# EAGLE library part ESP07-16PIN (library esp8266modules)
ESP8266 Wifi module 07 - 16 pins
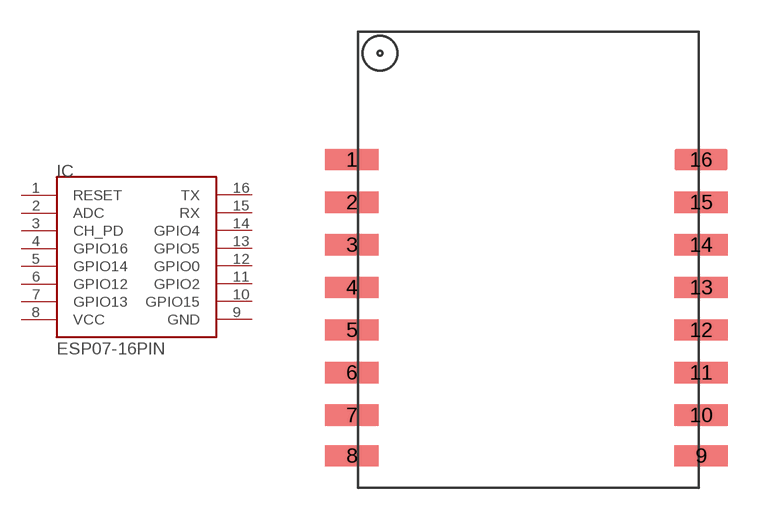
[diagram p11: symbol with the pads of ESP07-16PIN; footprint ESP07-16PIN]

Designator prefix IC

## ESP07-16PIN (DIMENSIONS: 22.0 x 16.0 mm; PINS: 16; PITCH: 0.078" / 2 mm)  [ESP07-16PIN]
1  RESET
2  ADC
3  CH_PD
4  GPIO16
5  GPIO14
6  GPIO12
7  GPIO13
8  VCC
9  GND
10  GPIO15
11  GPIO2
12  GPIO0
13  GPIO5
14  GPIO4
15  RX
16  TX

## Footprint ESP07-16PIN (pad centres in mm)
ESP8266 Module ESP-07 - 16 pins
smd 2.5 x 1: 1 -8.2,5.8; 2 -8.2,3.8; 3 -8.2,1.8; 4 -8.2,-0.2; 5 -8.2,-2.2; 6 -8.2,-4.2; 7 -8.2,-6.2; 8 -8.2,-8.105; 9 8.2,-8.105; 10 8.2,-6.2; 11 8.2,-4.2; 12 8.2,-2.2; 13 8.2,-0.2; 14 8.2,1.8; 15 8.2,3.8; 16 8.2,5.8